# EAGLE library part M74HC20B1R (library ST Microelctronics_By_element14_Batch_1)
DUAL 4-INPUT NAND GATE
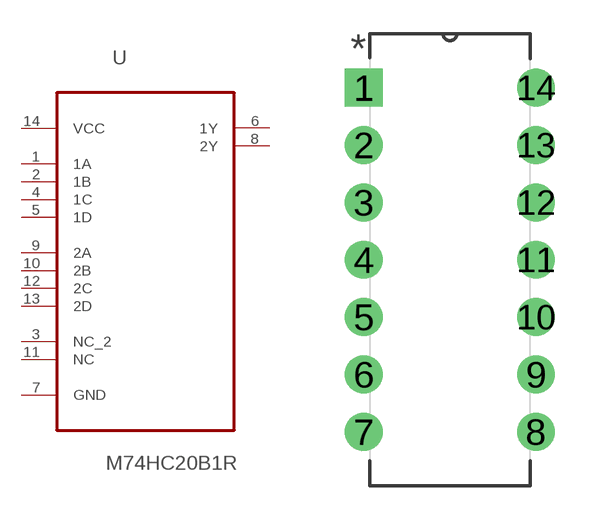
[diagram p222: symbol with the pads of DIP254P762X510-14; footprint DIP254P762X510-14]

Designator prefix U

## M74HC20B1R (MPN: M74HC20B1R; OC_FARNELL: 9755446; OC_NEWARK: 89K0873; PACKAGE: 14-DIP; SUPPLIER: STMICROELECTRONICS)  [DIP254P762X510-14]
1  1A  in
2  1B  in
3  NC_2  nc
4  1C  in
5  1D  in
6  1Y  out
7  GND  pas
8  2Y  out
9  2A  in
10  2B  in
11  NC  nc
12  2C  in
13  2D  in
14  VCC  pwr

## Footprint DIP254P762X510-14 (pad centres in mm)
drill 1.118 square: 1 -7.62,15.24
drill 1.118: 2 -7.62,12.7; 3 -7.62,10.16; 4 -7.62,7.62; 5 -7.62,5.08; 6 -7.62,2.54; 7 -7.62,0; 8 0,0; 9 0,2.54; 10 0,5.08; 11 0,7.62; 12 0,10.16; 13 0,12.7; 14 0,15.24